# Altium integrated library pca20020.IntLib: 47 symbols
Pins are listed as number, name and electrical type; pins without a type are passive.

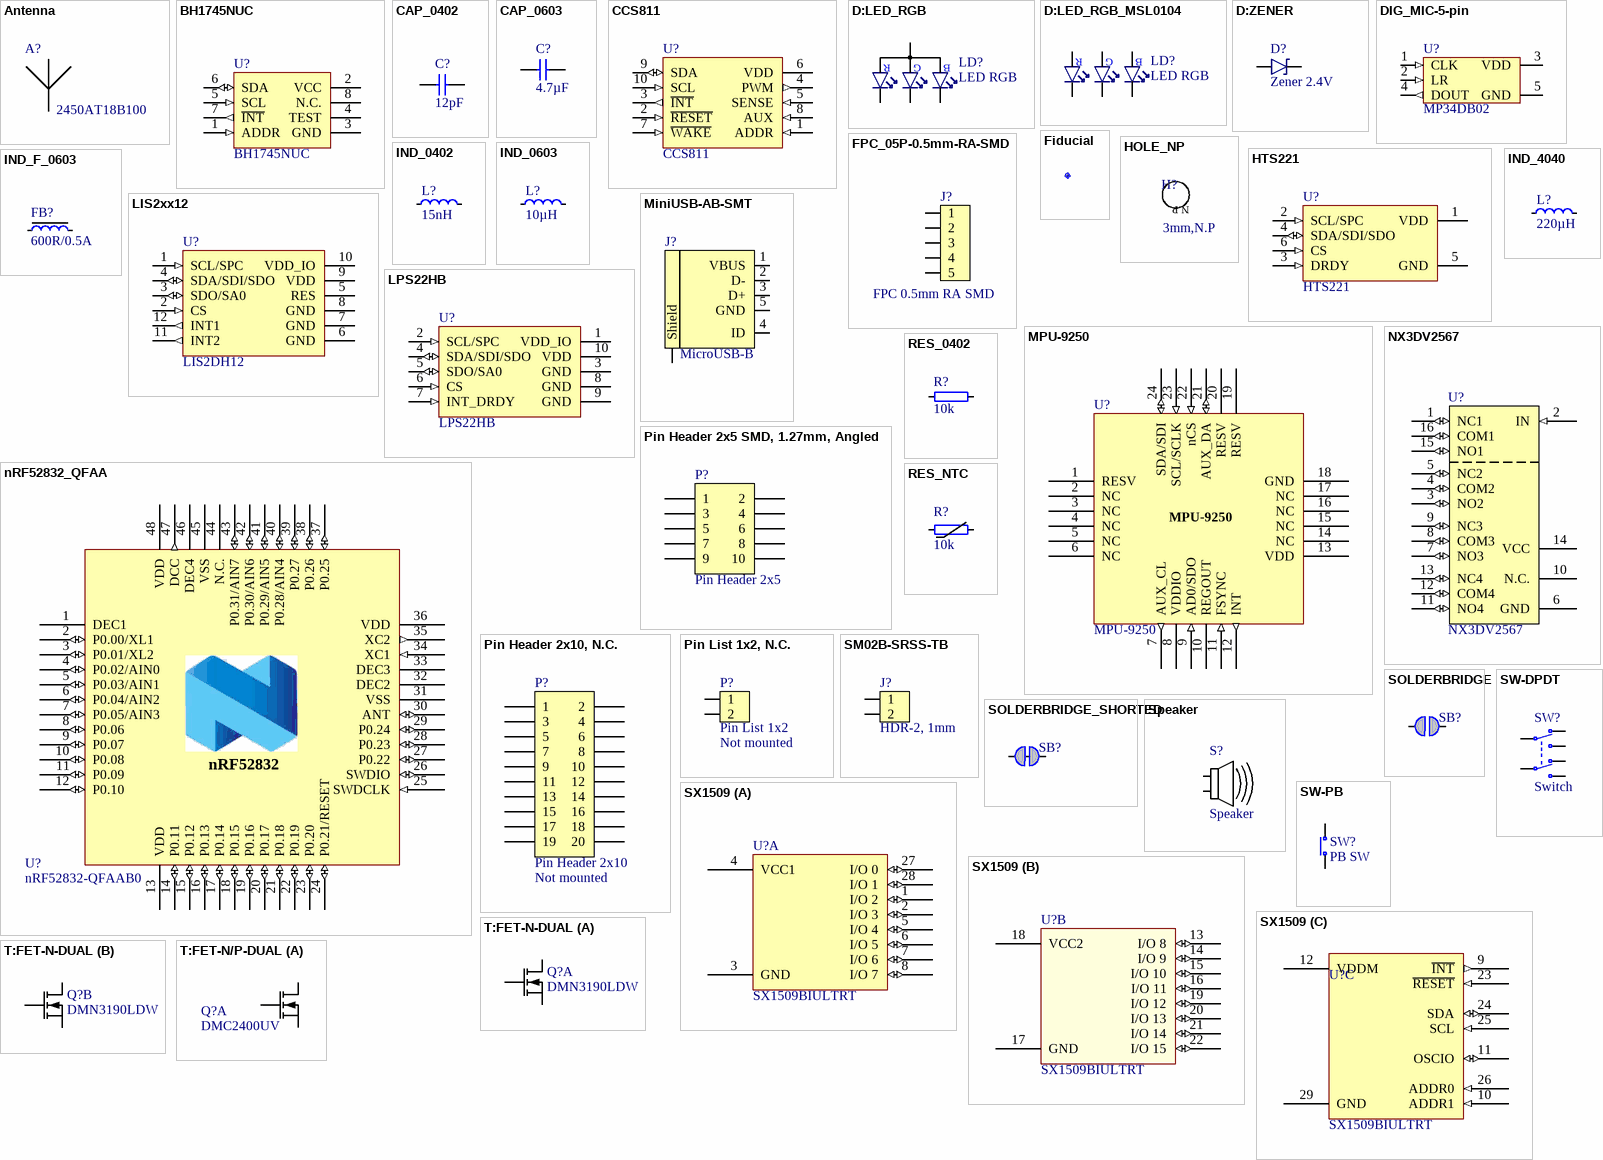
[diagram p0: symbols Antenna to T:FET-N/P-DUAL]

## Antenna
designator A?, comment 2450AT18B100
2.45 GHz chip antenna; Part Number: Johanson 2450AT18B100; Manufacturer: Johanson Technology; Part number IPS: 00000007781; Artikkelnr Noca: N.A.; Manufacturer Part Number: 2450AT18B100; Datasheet: http://www.johansontechnology.com/datasheets/antennas/2450AT18B100.pdf; Footprint Doc: 2450AT18B100; LatestRevisionDate: 2013-09-13; Pin Count: 2; Publisher: Nordic Semiconductor; Published: 2013-09-13; Value: 2450AT18B100; Note: *; Supplier: Digi-Key; Supplier part number: 712-1006-1-ND; 2nd source Supplier: *; 2nd source part number: *; Artikkelnr Simpro: N.A.
footprint 2450AT18B100
pins: 1

## BH1745NUC
designator U?
Digital 16bit Serial Output Type Color Sensor IC; Manufacturer: Rohm Semiconductor; Part number IPS: 00000007820; Artikkelnr Noca: N.A.; Part Number: BH1745NUC; Manufacturer Part Number: BH1745NUC; Datasheet: http://rohmfs.rohm.com/en/products/databook/datasheet/ic/sensor/light/bh1745nuc-e.pdf; Footprint Doc: WSON-8; LatestRevisionDate: 2015-10-07; Pin Count: 8; Publisher: Nordic Semiconductor; Published: 2015-10-07; Value: BH1745NUC; Note: *; Supplier: Digi-Key; Supplier part number: BH1745NUC-E2CT-ND; 2nd source Supplier: *; 2nd source part number: *; Artikkelnr Simpro: N.A.
footprint WSON50P210X210X60_HS-9N
pins: 1 ADDR (in), 2 VCC (power), 3 GND (power), 4 TEST, 5 SCL (in), 6 SDA (io), 7 ~{INT} (out), 8 N.C., 9 GND (power) hidden to GND

## CAP_0402
designator C?, comment 12pF
Capacitor, NP0, ±2%; Part Number: C0402-12p; Part number IPS: 00000002398; Note: 50V; Artikkelnr Noca: 20029159; Artikkelnr Simpro: N.A.; Manufacturer: *; Manufacturer Part Number: *; Datasheet: *; LatestRevisionDate: 2011-05-11; Pin Count: 2; Publisher: Nordic Semiconductor; Published: 2009-05-08; Value: 12pF; Supplier: *; Supplier part number: *; 2nd source Supplier: *; 2nd source part number: *; Footprint Doc: 0402
footprint CAPC1005X04L
pins: 1, 2

## CAP_0603
designator C?, comment 4.7µF
Capacitor, X5R, ±10%; Part Number: C0603-4µ7; Part number IPS: 00000007783; Note: 6.3V; Artikkelnr Noca: 20069060; Artikkelnr Simpro: N.A.; Manufacturer: *; Manufacturer Part Number: *; Datasheet: *; LatestRevisionDate: 2009-11-23; Pin Count: 2; Publisher: Nordic Semiconductor; Published: 2009-05-08; Value: 4.7µF; Supplier: *; Supplier part number: *; 2nd source Supplier: *; 2nd source part number: *; Footprint Doc: 0603
footprint CAPC1608X06L
pins: 1, 2

## CCS811
designator U?
Ultra-low power digital gas sensor for monitoring indoor air quality; Manufacturer: Cambridge CMOS Sensors; Part number IPS: 00000007821; Artikkelnr Noca: N.A.; Part Number: CCS811; Manufacturer Part Number: CCS811; Datasheet: *; Footprint Doc: LGA-10; LatestRevisionDate: 2015-11-04; Pin Count: 10; Publisher: Nordic Semiconductor; Published: 2015-11-04; Value: CCS811; Note: *; Supplier: *; Supplier part number: *; 2nd source Supplier: *; 2nd source part number: *; Artikkelnr Simpro: N.A.
footprint LGA60P270X400X110_HS-11N
pins: 1 ADDR (in), 2 ~{RESET} (in), 3 ~{INT} (out), 4 PWM (out), 5 SENSE (in), 6 VDD (power) "VDD 2.3V - 5.5V", 7 ~{WAKE} (in), 8 AUX (in), 9 SDA (io), 10 SCL (in), 11 GND (power) hidden to GND

## D:LED_RGB
designator LD?, comment LED RGB
RGB LED 1.60 mm x 1.60 mm SMD; Part Number: LTST-C19HE1WT; Manufacturer: Lite-On Inc; 2nd source part number: 859-LTST-C19HE1WT; Part number IPS: 00000007798; Artikkelnr Noca: N.A.; Manufacturer Part Number: LTST-C19HE1WT; Datasheet: http://optoelectronics.liteon.com/upload/download/DS22-2008-0044/S_110_LTST-C19HE1WT.pdf; LatestRevisionDate: 2016-09-23; Pin Count: 4; Publisher: Nordic Semiconductor; Published: 2016-09-23; Value: LED RGB; Note: *; Supplier: Digi-Key; Supplier part number: 160-2162-1-ND; 2nd source Supplier: Mouser; Footprint Doc: LED_RGB_0606; Artikkelnr Simpro: N.A.
footprint LED_RGB_0606
pins: 1 C_RED, 2 C_GREEN, 3 C_BLUE, 4 A
text: R; G; B

## D:LED_RGB_MSL0104
designator LD?, comment LED RGB
High brightness, side view RGB LED; Part Number: MSL0104RGBU1; Manufacturer: ROHM; 2nd source part number: 755-MSL0104RGBU1; Part number IPS: 00000007799; Artikkelnr Noca: N.A.; Manufacturer Part Number: MSL0104RGBU1; Datasheet: http://www.rohm.com/web/eu/datasheet/MSL0104RGBU; LatestRevisionDate: 2016-09-21; Pin Count: 7; Publisher: Nordic Semiconductor; Published: 2016-09-21; Value: LED RGB; Note: *; Supplier: Digi-Key; Supplier part number: MSL0104RGBU1CT-ND; 2nd source Supplier: Mouser; Footprint Doc: 6922; Artikkelnr Simpro: N.A.
footprint MSL0104
pins: 1 A_RED, 2 A_GREEN, 3 C_GREEN, 4 C_RED, 5 C_BLUE, 6 A_BLUE
text: R; G; B

## D:ZENER
designator D?, comment Zener 2.4V
Diode, Zener, 2.4V, 0.3W; Part Number: BZT52C2V4T; Manufacturer: Diodes Incorporated; Part number IPS: 00000007974; Artikkelnr Noca: N.A.; Manufacturer Part Number: BZT52C2V4T; Datasheet: http://www.diodes.com/_files/datasheets/ds30502.pdf; Footprint Doc: SOD-523; LatestRevisionDate: 2017-01-25; Publisher: Nordic Semiconductor; Published: 2017-01-25; Value: Zener 2.4V; Note: *; Supplier: Digi-Key; Supplier part number: BZT52C2V4T-7DICT-ND; 2nd source Supplier: *; 2nd source part number: *; Artikkelnr Simpro: N.A.; Pin Count: 2
footprint SOD-523
pins: 1 A, 3 C

## DIG_MIC-5-pin
designator U?, comment MP34DB02
MEMS audio sensor omnidirectional digital microphone; Manufacturer: STMicroelectronics; 2nd source part number: 511-MP34DB02TR; Part number IPS: 00000007822; Note: Alternative: ADMP421, SPK0833LM4H-B, MP34DB01; Artikkelnr Noca: N.A.; Part Number: MP34DB02; Manufacturer Part Number: MP34DB02; Datasheet: http://www.st.com/web/en/resource/technical/document/datasheet/DM00111225.pdf; LatestRevisionDate: 2015-11-11; Pin Count: 5; Publisher: Nordic Semiconductor; Published: 2015-11-11; Value: MP34DB02; Supplier: Digi-Key; Supplier part number: 497-15103-1-ND; 2nd source Supplier: Mouser; Footprint Doc: RHLGA-4; Artikkelnr Simpro: N.A.
footprint RHLGA-4 (3x4x1mm)
pins: 1 CLK (in), 2 LR (in), 3 VDD (power), 4 DOUT (out), 5 GND (power)

## Fiducial
designator Fid?, comment Fiducial mark  (value not drawn)
Part Number: Fid-Mark-Round-Square; Artikkelnr Noca: N.A.; Manufacturer: *; Manufacturer Part Number: *; Datasheet: *; LatestRevisionDate: 2017-01-30; Pin Count: 1; Publisher: Nordic Semiconductor; Published: 2009-12-12; Value: *; Note: *; Supplier: *; Supplier part number: *; 2nd source Supplier: *; 2nd source part number: *; Footprint Doc: Fiducial; Artikkelnr Simpro: N.A.
footprint Fiducial_Round-Square

## FPC_05P-0.5mm-RA-SMD
designator J?, comment FPC 0.5mm RA SMD
0.5mm FPC, 5P,Right Angle SMT,Double Contact,H=1.2mm,White, Tin plated; Part Number: FPC_05P-0.5mm-RA-SMD; Manufacturer: W-CON; Manufacturer Part Number: 5141-05RZDNWR01; 2nd source part number: WM9836CT-ND; Part number IPS: 00000007792; Artikkelnr Noca: 55010020; Artikkelnr Simpro: N.A.; Datasheet: \\hizz\pro\app9717\Datasheet\connectores\W-CON\5141-XXRZDNXX0X.pdf; Footprint Doc: FPC_05P-0.5mm-RA-SMD; LatestRevisionDate: 2016-04-21; Pin Count: 7; Publisher: Nordic Semiconductor; Published: 2015-06-22; Value: FPC 0.5mm RA SMD; Note: *; Supplier: Cabcon; Supplier part number: 5141-05RZDNWR01; 2nd source Supplier: Digi-Key
footprint FPC_05P-0.5mm-RA-SMD
pins: 1, 2, 3, 4, 5

## HOLE_NP
designator H?, comment 3mm,N.P  (no BOM)
Regular Non-Plated, 3mm hole; Part Number: Hole_3MM_NP; Manufacturer: Nordic Semiconductor; Artikkelnr Noca: N.A.; Manufacturer Part Number: *; Datasheet: *; Footprint Doc: Hole_3MM_NP; LatestRevisionDate: 2009-12-12; Pin Count: 1; Publisher: Nordic Semiconductor; Published: 2009-12-12; Value: 3mm,N.P; Note: Regular Non-Plated, 3mm hole; Supplier: *; Supplier part number: *; 2nd source Supplier: *; 2nd source part number: *; Artikkelnr Simpro: N.A.
footprint HOLE_NP_3MM
text: N.P.

## HTS221
designator U?
Capacitive digital sensor for relative humidity and temperature; Manufacturer: STMicroelectronics; 2nd source part number: 511-HTS221TR; Part number IPS: 00000007819; Artikkelnr Noca: N.A.; Part Number: HTS221; Manufacturer Part Number: HTS221; Datasheet: http://www.st.com/content/ccc/resource/technical/document/datasheet/4d/9a/9c/ad/25/07/42/34/DM00116291.pdf/files/DM00116291.pdf/jcr:content/translations/en.DM00116291.pdf; Footprint Doc: HLGA-6L; LatestRevisionDate: 2016-09-15; Pin Count: 6; Publisher: Nordic Semiconductor; Published: 2016-09-15; Value: HTS221; Note: *; Supplier: Digi-Key; Supplier part number: 497-15382-1-ND; 2nd source Supplier: Mouser; Artikkelnr Simpro: N.A.
footprint HLGA100P200X200X100-6N
pins: 1 VDD (power), 2 SCL/SPC (in), 3 DRDY (in), 4 SDA/SDI/SDO (io), 5 GND (power), 6 CS (in)

## IND_0402
designator L?, comment 15nH
Inductor, 320mA, ±5%; Part Number: L0402-15n; Manufacturer: Taiyo Yuden; Manufacturer Part Number: HK100515NJ-T; 2nd source part number: 658-1328; Part number IPS: 00000003215; Note: High frequency chip inductor ±10%; Artikkelnr Noca: 33029323; Artikkelnr Simpro: N.A.; LatestRevisionDate: 2012-09-19; Pin Count: 2; Publisher: Nordic Semiconductor; Published: 2010-07-12; Value: 15nH; Supplier: Digi-Key; Datasheet: http://www.yuden.co.jp/productdata/catalog/en/mlci04_e.pdf; Supplier part number: 587-1521-1-ND; 2nd source Supplier: Farnell; Footprint Doc: 0402; ComponentLink1Description: Datasheet; ComponentLink2Description: Supplier link
footprint INDC1005X04L
pins: 1, 2

## IND_0603
designator L?, comment 10µH
Inductor, 80mA, ±10%; Part Number: L0603-10µ; Manufacturer: Taiyo Yuden; Manufacturer Part Number: LBMF1608T100K; 2nd source part number: 178-6105; Part number IPS: 00000007794; Note: LBMF1608T100K 10µH 80mA 0603; Artikkelnr Noca: 33029314; Artikkelnr Simpro: N.A.; Datasheet: http://www.yuden.co.jp/ut/product/pdf/elb2_e.pdf; LatestRevisionDate: 2012-09-19; Pin Count: 2; Publisher: Nordic Semiconductor; Published: 2010-02-24; Value: 10µH; Supplier: Digi-Key; Supplier part number: 587-1714-1-ND; 2nd source Supplier: Farnell; Footprint Doc: 0603; ComponentLink1Description: Datasheet; ComponentLink2Description: Supplier link
footprint INDC1608X06L
pins: 1, 2

## IND_4040
designator L?, comment 220µH
Inductor, ±20%, 200mA, 2.76 Ohm; Part Number: L4040-220µ; Manufacturer: Bourns; Manufacturer Part Number: SRN4026-221M; Part number IPS: 00000007797; Note: -40°C ~ 125°C; Artikkelnr Noca: N:A; Artikkelnr Simpro: N.A.; Datasheet: http://www.bourns.com/docs/Product-Datasheets/SRN4026.pdf; Footprint Doc: 4040; LatestRevisionDate: 2016-01-18; Pin Count: 2; Publisher: Nordic Semiconductor; Published: 2016-01-18; Value: 220µH; Supplier: Digi-Key; Supplier part number: SRN4026-221MCT-ND; 2nd source Supplier: *; 2nd source part number: *; ComponentLink1Description: Datasheet; ComponentLink2Description: Supplier link
footprint INDP4040X25N
pins: 1, 2

## IND_F_0603
designator FB?, comment 600R/0.5A
Ferrite Bead, 600 Ohm @ 100MHz, 500mA, 380 mOhm Max; Part Number: FB0603-600R@100MHz-500mA; Manufacturer: Murata; Manufacturer Part Number: BLM18AG601SN1; 2nd source part number: 490-1014-1-ND; Part number IPS: 00000007789; Note: Chip EMIFIL Inductor Type Chip Ferrite Bead; Artikkelnr Noca: 37019100; Artikkelnr Simpro: N.A.; Datasheet: http://www.farnell.com/datasheets/356366.pdf; Footprint Doc: 0603; LatestRevisionDate: 2014-01-10; Pin Count: 2; Publisher: Nordic Semiconductor; Published: 2010-09-02; Value: 600R/0.5A; Supplier: Farnell; Supplier part number: 151-5679; 2nd source Supplier: Digi-Key; ComponentLink1Description: Datasheet; ComponentLink2Description: Supplier link
footprint INDC1608X06L
pins: 1, 2

## LIS2xx12
designator U?, comment LIS2DH12
3-axis - ±2g/±4g/±8g/±16g digital output femto accelerometer; Manufacturer: STMicroelectronics; 2nd source part number: 243-3081; Part number IPS: 00000007817; Note: MEMS digital output motion sensor ultra low-power high performance 3-axes "femto" accelerometer; Artikkelnr Noca: N.A.; Part Number: LIS2DH12; Manufacturer Part Number: LIS2DH12; Datasheet: http://www.st.com/st-web-ui/static/active/en/resource/technical/document/datasheet/DM00091513.pdf; Footprint Doc: LGA-12; LatestRevisionDate: 2015-09-29; Pin Count: 12; Publisher: Nordic Semiconductor; Published: 2015-09-29; Value: LIS2DH12; Supplier: Digi-Key; Supplier part number: 497-14851-1-ND; 2nd source Supplier: Farnell; Artikkelnr Simpro: N.A.
footprint LGA50P200X200X100-12N
pins: 1 SCL/SPC (in), 2 CS (in), 3 SDO/SA0 (io), 4 SDA/SDI/SDO (io), 5 RES, 6 GND (power), 7 GND (power), 8 GND (power), 9 VDD (power), 10 VDD_IO (power), 11 INT2 (out), 12 INT1 (out)

## LPS22HB
designator U?
MEMS nano pressure sensor: 260-1260 hPa absolute digital output barometer; Manufacturer: STMicroelectronics; 2nd source part number: 511-LPS22HBTR; Part number IPS: 00000007818; Artikkelnr Noca: N.A.; Part Number: LPS22HB; Manufacturer Part Number: LPS22HB; Datasheet: http://www.st.com/content/ccc/resource/technical/document/datasheet/bf/c1/4f/23/61/17/44/8a/DM00140895.pdf/files/DM00140895.pdf/jcr:content/translations/en.DM00140895.pdf; Footprint Doc: HLGA-10L; LatestRevisionDate: 2016-06-20; Pin Count: 10; Publisher: Nordic Semiconductor; Published: 2016-06-20; Value: LPS22HB; Note: *; Supplier: Digi-Key; Supplier part number: 497-16265-1-ND; 2nd source Supplier: Mouser; Artikkelnr Simpro: N.A.
footprint LGA50P200X200X80-10N
pins: 1 VDD_IO (power), 2 SCL/SPC (in), 3 GND (power), 4 SDA/SDI/SDO (io), 5 SDO/SA0 (io), 6 CS (in), 7 INT_DRDY (in), 8 GND (power), 9 GND (power), 10 VDD (power)

## MiniUSB-AB-SMT
designator J?, comment MicroUSB-B
MicroUSB-B-SMT; Part Number: USB-Micro-B-RA-SMD-PiP; Manufacturer: Allen Creations Corp.; Manufacturer Part Number: AJU55-BS2111-L; 2nd source part number: 609-4616-1-ND; Part number IPS: 00000007790; Artikkelnr Noca: 55029020; Artikkelnr Simpro: N.A.; Datasheet: \\hizz\pro\app9717\Datasheet\connectores\Allen Creations Corp\AJU-211.pdf; Footprint Doc: USB-Micro-B-RA-SMD-PiP; LatestRevisionDate: 2016-04-21; Pin Count: 5; Publisher: Nordic Semiconductor; Published: 2014-10-07; Value: MicroUSB-B; Note: *; Supplier: Cabcon; Supplier part number: AJU55-BS2111-L; 2nd source Supplier: Digi-Key
footprint USB-Micro-B-RA-SMD-PiP
pins: 1 VBUS (power), 2 D-, 3 D+, 4 ID, 5 GND (power), 6 Shield (power)

## MPU-9250
designator U?
9-axis MotionTracking™ Device; Manufacturer: InvenSense; Part number IPS: 00000007815; Note: 3-Axis Gyro, 3-Axis Accel and 3-Axis Compass; Artikkelnr Noca: N.A.; Part Number: MPU-9250; Manufacturer Part Number: MPU-9250; Datasheet: http://43zrtwysvxb2gf29r5o0athu.wpengine.netdna-cdn.com/wp-content/uploads/2015/02/MPU-9250-Datasheet.pdf; Footprint Doc: QFN-24; LatestRevisionDate: 2015-06-24; Pin Count: 24; Publisher: Nordic Semiconductor; Published: 2015-06-24; Value: MPU-9250; Supplier: Digi-Key; Supplier part number: 1428-1019-1-ND; 2nd source Supplier: *; 2nd source part number: *; Artikkelnr Simpro: N.A.
footprint QFN40P300X300X105_HS-25N
pins: 1 RESV, 2 NC, 3 NC, 4 NC, 5 NC, 6 NC, 7 AUX_CL (out), 8 VDDIO (power), 9 AD0/SDO (in), 10 REGOUT, 11 FSYNC (in), 12 INT (out), 13 VDD (power), 14 NC, 15 NC, 16 NC, 17 NC, 18 GND (power), 19 RESV, 20 RESV, 21 AUX_DA (io), 22 nCS (in), 23 SCL/SCLK (in), 24 SDA/SDI (io)

## nRF52832_QFAA
designator U?, comment nRF52832-QFAAB0
Multi-protocol Bluetooth Low Energy, ANT and 2.4GHz proprietary system-on-chip; Manufacturer: Nordic Semiconductor; Part number IPS: 80000000710; Artikkelnr Noca: 15079334; Artikkelnr Simpro: N.A.; Part Number: nRF52832-QFAAB0; Manufacturer Part Number: nRF52832-QFAAB0; Datasheet: *; LatestRevisionDate: 2016-08-25; Pin Count: 48; Publisher: Nordic Semiconductor; Published: 2016-08-25; Value: nRF52832-QFAAB0; Note: *; Supplier: Nordic Semiconductor; Supplier part number: nRF52832-QFAAB0; 2nd source Supplier: *; 2nd source part number: *; Footprint Doc: QFN-48
footprint QFN40P600X600X90-48N
pins: 1 DEC1 (power), 2 P0.00/XL1 (io), 3 P0.01/XL2 (io), 4 P0.02/AIN0 (io), 5 P0.03/AIN1 (io), 6 P0.04/AIN2 (io), 7 P0.05/AIN3 (io), 8 P0.06 (io), 9 P0.07 (io), 10 P0.08 (io), 11 P0.09 (io), 12 P0.10 (io), 13 VDD (power), 14 P0.11 (io), 15 P0.12 (io), 16 P0.13 (io), 17 P0.14 (io), 18 P0.15 (io), 19 P0.16 (io), 20 P0.17 (io), 21 P0.18 (io), 22 P0.19 (io), 23 P0.20 (io), 24 P0.21/RESET (io), 25 SWDCLK (in), 26 SWDIO (io), 27 P0.22 (io), 28 P0.23 (io), 29 P0.24 (io), 30 ANT (io), 31 VSS (power), 32 DEC2 (power), 33 DEC3 (power), 34 XC1 (in), 35 XC2 (out), 36 VDD (power), 37 P0.25 (io), 38 P0.26 (io), 39 P0.27 (io), 40 P0.28/AIN4 (io), 41 P0.29/AIN5 (io), 42 P0.30/AIN6 (io), 43 P0.31/AIN7 (io), 44 N.C. (power), 45 VSS (power), 46 DEC4 (power), 47 DCC (out), 48 VDD (power), 49 GND (power) hidden to GND
text: nRF52832

## NX3DV2567
designator U?
Low-ohmic four-pole double-throw analog switch; Part Number: NX3DV2567GU; Manufacturer: NXP Semiconductors; 2nd source part number: 771-NX3DV2567GU115; Part number IPS: 00000007816; Artikkelnr Noca: 15079317; Artikkelnr Simpro: N.A.; Manufacturer Part Number: NX3DV2567GU; Datasheet: http://www.nxp.com/documents/data_sheet/NX3DV2567.pdf; Footprint Doc: XQFN-16; LatestRevisionDate: 2015-02-17; Pin Count: 16; Publisher: Nordic Semiconductor; Published: 2015-02-17; Value: NX3DV2567; Note: *; Supplier: Digi-Key; Supplier part number: 568-5206-1-ND; 2nd source Supplier: Mouser
footprint XQFN40P180X260X50-16N
pins: 1 NC1 (io), 2 IN (in), 3 NO2 (io), 4 COM2 (io), 5 NC2 (io), 6 GND (power), 7 NO3 (io), 8 COM3 (io), 9 NC3 (io), 10 N.C., 11 NO4 (io), 12 COM4 (io), 13 NC4 (io), 14 VCC (power), 15 NO1 (io), 16 COM1 (io)

## Pin Header 2x5 SMD, 1.27mm, Angled
designator P?, comment Pin Header 2x5
Pin Header 2x5, 1.27mm (50mil); Part Number: Pin Header 2x5 SMD, 1.27mm, Angled; Manufacturer: Samtec; Manufacturer Part Number: FTSH-105-01-L-DH-A-C-TR; Part number IPS: 00000007800; Artikkelnr Noca: N.A.; Datasheet: http://www.samtec.com/documents/webfiles/pdf/FTSH_SMT.PDF; LatestRevisionDate: 2014-01-22; Pin Count: 10; Publisher: Nordic Semiconductor; Published: 2014-01-22; Value: Pin Header 2x5; Note: *; Supplier: Samtec; Supplier part number: FTSH-105-01-L-DH-A-C-TR; 2nd source Supplier: *; 2nd source part number: *; Footprint Doc: HDR_2x5-SMD-1.27mm-ANG; Artikkelnr Simpro: N.A.
footprint HDR_2x5-SMD-1.27mm-ANG
pins: 1, 2, 3, 4, 5, 6, 7, 8, 9, 10

## Pin Header 2x10, N.C.
designator P?, comment Pin Header 2x10  Assembly: Not mounted
Pin Header 2x10, 2.54mm (100mil); Part Number: Pin Header 2x10, N.C.; Artikkelnr Noca: N.A.; Manufacturer: *; Manufacturer Part Number: *; Datasheet: *; Footprint Doc: HDR_2x10; LatestRevisionDate: 2017-02-02; Pin Count: 20; Publisher: Nordic Semiconductor; Published: 2017-01-30; Value: Pin Header 2x10; Note: *; Supplier: *; Supplier part number: *; 2nd source Supplier: *; 2nd source part number: *; Artikkelnr Simpro: N.A.
footprint HDR_2x10-NC
pins: 1, 2, 3, 4, 5, 6, 7, 8, 9, 10, 11, 12, 13, 14, 15, 16, 17, 18, 19, 20

## Pin List 1x2, N.C.
designator P?, comment Pin List 1x2  Assembly: Not mounted
Pin List 1x2, 2.54mm (100mil); Part Number: Pin List 1x2, N.C.; Artikkelnr Noca: N.A.; Manufacturer: *; Manufacturer Part Number: *; Datasheet: *; Footprint Doc: LIST_1x2; LatestRevisionDate: 2017-02-02; Pin Count: 2; Publisher: Nordic Semiconductor; Published: 2017-01-30; Value: Pin List 1x2; Note: *; Supplier: *; Supplier part number: *; 2nd source Supplier: *; 2nd source part number: *; Artikkelnr Simpro: N.A.
footprint LIST_1x2-NC
pins: 1, 2

## RES_0402
designator R?, comment 10k
Resistor, ±1%, 0.063W; Part Number: R0402-10k; Part number IPS: 00000002093; Note: Chip Res 1%; Artikkelnr Noca: 27049097; Artikkelnr Simpro: N.A.; Value Ohm: 10000; Manufacturer: *; Manufacturer Part Number: *; Datasheet: *; Footprint Doc: 0402; LatestRevisionDate: 2009-11-23; Pin Count: 2; Publisher: Nordic Semiconductor; Published: 2009-05-08; Value: 10k; Supplier: Farnell; Supplier part number: 173-8864; 2nd source Supplier: *; 2nd source part number: *
footprint RESC1005X04L
pins: 1, 2

## RES_NTC
designator R?, comment 10k
THERMISTOR 10K OHM NTC 0402 SMD; Part Number: NCP15XH103F03RC; Manufacturer: Murata; 2nd source part number: 2456121; Part number IPS: 00000007808; Note: Chip Res 1%; Artikkelnr Noca: N.A.; Value Ohm: 10000; Manufacturer Part Number: NCP15XH103F03RC; Datasheet: *; LatestRevisionDate: 2015-03-25; Pin Count: 2; Publisher: Nordic Semiconductor; Published: 2015-03-25; Value: 10k; Supplier: Digi-Key; Supplier part number: 490-4801-1-ND; 2nd source Supplier: Farnell; Footprint Doc: 0402; Artikkelnr Simpro: N.A.
footprint RESC1005X04L
pins: 1, 2

## SM02B-SRSS-TB
designator J?, comment HDR-2, 1mm
1.0mm pitch connector side entry SMD; Part Number: SM02B-SRSS-TB; Manufacturer: JST; Manufacturer Part Number: SM02B-SRSS-TB(LF)(SN); Part number IPS: 00000007791; Note: JST, Header; Artikkelnr Noca: 55010030; Artikkelnr Simpro: N.A.; Datasheet: http://www.jst-mfg.com/product/pdf/eng/eSH.pdf; Footprint Doc: SM02B-SRSS-TB; LatestRevisionDate: 2016-06-20; Pin Count: 2; Publisher: Nordic Semiconductor; Published: 2016-06-20; Value: HDR-2, 1mm; Supplier: Digi-Key; Supplier part number: 455-1802-1-ND; 2nd source Supplier: *; 2nd source part number: *
footprint SM02B-SRSS-TB
pins: 1, 2

## SOLDERBRIDGE
designator SB?, comment Solderbridge  (value not drawn)  (no BOM)
Artikkelnr Noca: N.A.; Part Number: Solderbridge; Manufacturer: *; Manufacturer Part Number: *; Datasheet: *; Footprint Doc: Solderbridge; LatestRevisionDate: 2009-12-14; Pin Count: 2; Publisher: Nordic Semiconductor; Published: 2009-12-14; Value: Solderbridge; Note: *; Supplier: *; Supplier part number: *; 2nd source Supplier: *; 2nd source part number: *; Artikkelnr Simpro: N.A.
footprint Solderbridge
pins: 1 0, 2 1

## SOLDERBRIDGE_SHORTED
designator SB?, comment Solderbridge  (value not drawn)  (net tie, no BOM)
Shorted Solderbridge; Part Number: Solderbridge Shorted; Artikkelnr Noca: N.A.; Manufacturer: *; Manufacturer Part Number: *; Datasheet: *; Footprint Doc: Solderbridge_Shorted; LatestRevisionDate: 2012-08-07; Pin Count: 2; Publisher: Nordic Semiconductor; Published: 2012-08-07; Value: Solderbridge; Note: *; Supplier: *; Supplier part number: *; 2nd source Supplier: *; 2nd source part number: *; Artikkelnr Simpro: N.A.
footprint Solderbridge_Shorted
pins: 1 0, 2 1

## Speaker
designator S?  (no BOM)
Speaker, SMD, 15.0mm x 11.0mm x 3.0mm, 0Hz-20kHz, 89dB, 8 ohm, 0.7W; Part Number: BMS1511F-11C-08H03P LF; Manufacturer: BeStar; Artikkelnr Noca: N.A.; Manufacturer Part Number: BMS1511F-11C-08H03P LF; Datasheet: \\hizz\pro\app9717\Datasheet\speakers\bestar\BMS1511F-11C-08H03P LF.pdf; Footprint Doc: Speaker 15x11x3mm; LatestRevisionDate: 2016-09-15; Pin Count: 2; Publisher: Nordic Semiconductor; Published: 2016-09-15; Value: Speaker; Note: *; Supplier: *; Supplier part number: *; 2nd source Supplier: *; 2nd source part number: *; Artikkelnr Simpro: N.A.
footprint Speaker 15x11x3mm
pins: 1, 2

## SW-DPDT
designator SW?, comment Switch
SMD slide Switch (ON-ON); Part Number: Switch-Slide-RA-J-Lead-DPDT-8.5x3.5mm_C&K; Manufacturer: C&K Components; Manufacturer Part Number: JS202011JAQN; 2nd source part number: 611-JS202011JAQN; Part number IPS: 00000007811; Artikkelnr Noca: N.A.; Datasheet: http://www.ck-components.com/media/1422/js.pdf; Footprint Doc: Switch-Slide-RA-J-Lead-DPDT-8.5x3.5mm; LatestRevisionDate: 2017-02-01; Pin Count: 6; Publisher: Nordic Semiconductor; Published: 2016-09-15; Value: Switch; Note: *; Supplier: Digi-Key; Supplier part number: CKN10722CT-ND; 2nd source Supplier: Mouser; Artikkelnr Simpro: N.A.
footprint Switch-Slide-RA-J-Lead-DPDT-8.5x3.5mm
pins: 1 N.O-1, 2 COM-1, 3 N.C-1, 4 N.O-2, 5 COM-2, 6 N.C-2

## SW-PB
designator SW?, comment PB SW
Tactile Switch, SPNO, SMD, 160gf, 6.2x6.3x2.5mm; Part Number: Switch-PB-6.2x6.3mm-SMD; Manufacturer: Dailywell; Manufacturer Part Number: TS604VM1-025BR-R; 2nd source part number: 688-SKHUALE010; Part number IPS: 00000007812; Artikkelnr Noca: 50019106; Artikkelnr Simpro: N.A.; Datasheet: \\hizz\pro\app9717\Datasheet\switches\Dailywell\TS604VM1-025BR-R.pdf; Footprint Doc: Switch-PB-6.2x6.3mm-SMD; LatestRevisionDate: 2016-04-21; Pin Count: 4; Publisher: Nordic Semiconductor; Published: 2010-02-01; Value: PB SW; Note: *; Supplier: Cabcon; Supplier part number: TS604VM1-025BR-R; 2nd source Supplier: Mouser
footprint Switch-PB-6.2x6.3mm-SMD
pins: 1 N.O, 2 COM

## SX1509
designator U?, comment SX1509BIULTRT
IC GPIO EXPANDER I2C 16CH 28QFN; Manufacturer: Semtech Corporation; Part number IPS: 00000007814; Artikkelnr Noca: N.A.; Part Number: SX1509BIULTRT; Manufacturer Part Number: SX1509BIULTRT; Datasheet: http://www.semtech.com/apps/product.php?pn=sx1509&x=0&y=0; Footprint Doc: QFN-28; LatestRevisionDate: 2015-03-10; Pin Count: 29; Publisher: Nordic Semiconductor; Published: 2015-03-10; Value: SX1509BIULTRT; Note: *; Supplier: Digi-Key; Supplier part number: SX1509BIULCT-ND; 2nd source Supplier: *; 2nd source part number: *; Artikkelnr Simpro: N.A.
footprint QFN40P400X400X60_HS-29N
part A pins: 1 I/O 2 (io), 2 I/O 3 (io), 3 GND (power), 4 VCC1 (power), 5 I/O 4 (io), 6 I/O 5 (io), 7 I/O 6 (io), 8 I/O 7 (io), 27 I/O 0 (io), 28 I/O 1 (io)
part B pins: 13 I/O 8 (io), 14 I/O 9 (io), 15 I/O 10 (io), 16 I/O 11 (io), 17 GND (power), 18 VCC2 (power), 19 I/O 12 (io), 20 I/O 13 (io), 21 I/O 14 (io), 22 I/O 15 (io)
part C pins: 9 ~{INT} (out), 10 ADDR1 (in), 11 OSCIO (io), 12 VDDM (power), 23 ~{RESET} (in), 24 SDA (io), 25 SCL (in), 26 ADDR0 (in), 29 GND (power)

## T:FET-N-DUAL
designator Q?, comment DMN3190LDW
Dual N Ch MOFET, 1A, 190mOhm, 320mW; Manufacturer: Diodes Incorporated; Part number IPS: 00000007804; Note: Dual N Channel Digital FET; Artikkelnr Noca: N.A.; Part Number: DMN3190LDW; Manufacturer Part Number: DMN3190LDW; Datasheet: http://www.diodes.com/_files/datasheets/DMN3190LDW.pdf; Footprint Doc: SOT-363; LatestRevisionDate: 2016-09-22; Pin Count: 6; Publisher: Nordic Semiconductor; Published: 2016-09-22; Value: DMN3190LDW; Supplier: Digi-Key; Supplier part number: DMN3190LDW-13DICT-ND; 2nd source Supplier: *; 2nd source part number: *; Artikkelnr Simpro: N.A.
footprint SOT-363
part A pins: 1 S1, 2 G1, 6 D1
part B pins: 3 D2, 4 S2, 5 G2

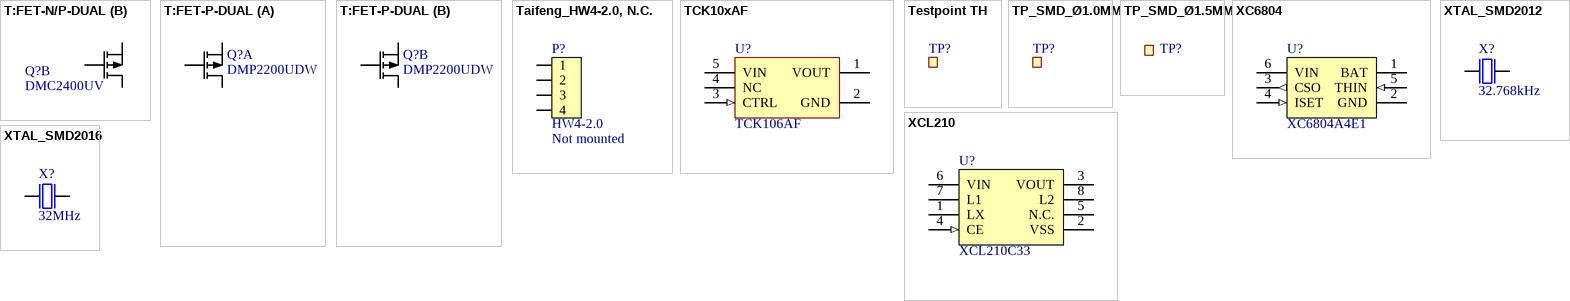
[diagram p1: symbols T:FET-N/P-DUAL to XTAL_SMD2016]

## T:FET-N/P-DUAL
designator Q?, comment DMC2400UV
Dual N & P Ch MOFET, 1.03A/0.7A, 480mOhm, 450mW; Manufacturer: Diodes Incorporated; Part number IPS: 00000007803; Note: Dual N & P Channel Digital FET; Artikkelnr Noca: N.A.; Part Number: DMC2400UV; Manufacturer Part Number: DMC2400UV; Datasheet: http://www.diodes.com/_files/datasheets/DMC2400UV.pdf; Footprint Doc: SOT-563; LatestRevisionDate: 2016-01-18; Pin Count: 6; Publisher: Nordic Semiconductor; Published: 2016-01-18; Value: DMC2400UV; Supplier: Digi-Key; Supplier part number: DMC2400UV-7DICT-ND; 2nd source Supplier: *; 2nd source part number: *; Artikkelnr Simpro: N.A.
footprint SOTFL50P162X60-6N
part A pins: 1 S1, 2 G1, 6 D1
part B pins: 3 D2, 4 S2, 5 G2

## T:FET-P-DUAL
designator Q?, comment DMP2200UDW
Dual P Ch MOFET, 900mA, 260mOhm, 450mW; Manufacturer: Diodes Incorporated; Part number IPS: 00000007802; Note: Dual P Channel Digital FET; Artikkelnr Noca: N.A.; Part Number: DMP2200UDW; Manufacturer Part Number: DMP2200UDW; Datasheet: http://www.diodes.com/_files/datasheets/DMP2200UDW.pdf; Footprint Doc: SOT-363; LatestRevisionDate: 2016-11-08; Pin Count: 6; Publisher: Nordic Semiconductor; Published: 2016-11-08; Value: DMP2200UDW; Supplier: Digi-Key; Supplier part number: DMP2200UDW-7DICT-ND; 2nd source Supplier: *; 2nd source part number: *; Artikkelnr Simpro: N.A.
footprint SOT-363
part A pins: 1 S1, 2 G1, 6 D1
part B pins: 3 D2, 4 S2, 5 G2

## Taifeng_HW4-2.0, N.C.
designator P?, comment HW4-2.0  Assembly: Not mounted
4 pin, Grove DIP connector; Part Number: Taifeng_HW4-2.0, N.C.; Manufacturer: Taifeng; Artikkelnr Noca: N.A.; Manufacturer Part Number: HW4-2.0; Datasheet: *; Footprint Doc: HW4-2.0; LatestRevisionDate: 2017-01-30; Pin Count: 4; Publisher: Nordic Semiconductor; Published: 2017-01-30; Value: HW4-2.0; Note: *; Supplier: Seeedstudio; Supplier part number: 110990030; 2nd source Supplier: *; 2nd source part number: *; Artikkelnr Simpro: N.A.
footprint TAIFENG_HW4-2.0-NC
pins: 1, 2, 3, 4

## TCK10xAF
designator U?, comment TCK106AF
1.0 A Load Switch IC with Slew Rate Control Driver in Small Package; Part Number: TCK106AF,LF; Manufacturer: Toshiba; Part number IPS: 00000007823; Artikkelnr Noca: 15070086; Artikkelnr Simpro: N.A.; Manufacturer Part Number: TCK106AF,LF; Datasheet: https://toshiba.semicon-storage.com/info/docget.jsp?did=53240&prodName=TCK108AF; Footprint Doc: SOT-25; LatestRevisionDate: 2016-09-29; Pin Count: 5; Publisher: Nordic Semiconductor; Published: 2016-09-29; Value: TCK106AF; Note: *; Supplier: Digi-Key; Supplier part number: TCK106AFLFCT-ND; 2nd source Supplier: *; 2nd source part number: *
footprint SOT95P280X140-5N
pins: 1 VOUT (power), 2 GND (power), 3 CTRL (in), 4 NC, 5 VIN (power)

## Testpoint TH
designator TP?, comment TP  (value not drawn)  (no BOM)
Testpoint, through hole; Part Number: Testpoint TH; Artikkelnr Noca: N.A.; Manufacturer: *; Manufacturer Part Number: *; Datasheet: *; Footprint Doc: TESTPAD-TH; LatestRevisionDate: 2009-12-12; Pin Count: 1; Publisher: Nordic Semiconductor; Published: 2009-12-12; Value: TP; Note: *; Supplier: *; Supplier part number: *; 2nd source Supplier: *; 2nd source part number: *; Artikkelnr Simpro: N.A.
footprint TESTPAD-TH
pins: 1

## TP_SMD_Ø1.0MM
designator TP?, comment Ø1.5mm,SMD  (value not drawn)  (no BOM)
1.0mm circular SMD testpad; Part Number: TP_SMD_Ø1.5MM; Manufacturer: Nordic Semiconductor; Artikkelnr Noca: N.A.; Manufacturer Part Number: *; Datasheet: *; Footprint Doc: TP_SMD_Ø1.5mm; LatestRevisionDate: 2016-06-02; Pin Count: 1; Publisher: Nordic Semiconductor; Published: 2016-06-02; Value: Ø1.5mm,SMD; Note: *; Supplier: *; Supplier part number: *; 2nd source Supplier: *; 2nd source part number: *; Artikkelnr Simpro: N.A.
footprint TP_SMD_Ø1.0mm
pins: 1

## TP_SMD_Ø1.5MM
designator TP?, comment Ø1.5mm,SMD  (value not drawn)  (no BOM)
1.0mm circular SMD testpad; Part Number: TP_SMD_Ø1.5MM; Manufacturer: Nordic Semiconductor; Artikkelnr Noca: N.A.; Manufacturer Part Number: *; Datasheet: *; Footprint Doc: TP_SMD_Ø1.5mm; LatestRevisionDate: 2016-06-02; Pin Count: 1; Publisher: Nordic Semiconductor; Published: 2016-06-02; Value: Ø1.5mm,SMD; Note: *; Supplier: *; Supplier part number: *; 2nd source Supplier: *; 2nd source part number: *; Artikkelnr Simpro: N.A.
footprint TP_SMD_Ø1.5mm
pins: 1

## XC6804
designator U?, comment XC6804A4E1
One Cell Li-ion/Li-polymer Linear Charger IC with Battery Temperature Detection; Part Number: XC6804A4E14R-G; Manufacturer: Torex Semiconductor; 2nd source part number: 865-XC6804A4E14R-G; Part number IPS: 00000007825; Artikkelnr Noca: N.A.; Manufacturer Part Number: XC6804A4E14R-G; Datasheet: https://www.torexsemi.com/file/xc6804/XC6804.pdf; Footprint Doc: USP-6EL; LatestRevisionDate: 2016-09-29; Pin Count: 6; Publisher: Nordic Semiconductor; Published: 2016-09-29; Value: XC6804A4E1; Note: *; Supplier: Digi-Key; Supplier part number: 893-1312-1-ND; 2nd source Supplier: Mouser; Artikkelnr Simpro: N.A.
footprint USP-6EL
pins: 1 BAT (power), 2 GND (power), 3 CSO (out), 4 ISET (in), 5 THIN (in), 6 VIN (power), 7 GND (power) hidden to GND

## XCL210
designator U?, comment XCL210C33
3.3V 200mA Inductor Built-in Step-Down “micro DC/DC” Converter; Manufacturer: Torex Semiconductor; Part number IPS: 00000007826; Artikkelnr Noca: N.A.; Part Number: XCL210C33; Manufacturer Part Number: XCL210C33; Datasheet: https://www.torexsemi.com/file/xcl210/XCL210.pdf; Footprint Doc: CL-2025; LatestRevisionDate: 2017-01-30; Pin Count: 8; Publisher: Nordic Semiconductor; Published: 2016-09-29; Value: XCL210C33; Note: *; Supplier: *; Supplier part number: *; 2nd source Supplier: *; 2nd source part number: *; Artikkelnr Simpro: N.A.
footprint CL-2025
pins: 1 LX, 2 VSS (power), 3 VOUT (power), 4 CE (in), 5 N.C., 6 VIN (power), 7 L1, 8 L2, 9 VSS (power) hidden to GND

## XTAL_SMD2012
designator X?, comment 32.768kHz
XTAL SMD 2012, 32.768kHz, 9pF, ±20ppm; Part Number: XTAL_SMD2012_32.768kHz_9pF_MC; Manufacturer: Micro Crystal; Manufacturer Part Number: CM8V-T1A 32.768KHZ 9PF +/-20PPM TA QC; Part number IPS: 00000007828; Note: XTAL SMD 32.768kHz; Artikkelnr Noca: N.A.; Datasheet: http://www.microcrystal.com/images/_PDF/3_Crystal_Ceramic-Package/cm8v-t1a.pdf; LatestRevisionDate: 2017-01-30; Pin Count: 2; Publisher: Nordic Semiconductor; Published: 2016-09-15; Value: 32.768kHz; Supplier: Allied; Supplier part number: 70417961; 2nd source Supplier: *; 2nd source part number: *; Footprint Doc: XTAL_2012; Artikkelnr Simpro: N.A.
footprint XTAL_2012
pins: 1 inp, 2 out

## XTAL_SMD2016
designator X?, comment 32MHz
XTAL SMD 2016, 32MHz, Cl=8pF, Tot: ±40ppm; Part Number: XTAL_SMD2016_32MHz_8pF_Kyocera; Manufacturer: Kyocera; Manufacturer Part Number: CX2016DB32000D0WZRC1; Part number IPS: 00000007827; Note: XTAL SMD 32.000MHz; Artikkelnr Noca: 22010022; Artikkelnr Simpro: N.A.; Datasheet: http://media.digikey.com/pdf/Data%20Sheets/AVX%20PDFs/CX2016DB32000D0WZRC1_Spec.pdf; LatestRevisionDate: 2016-06-02; Pin Count: 4; Publisher: Nordic Semiconductor; Published: 2015-10-15; Value: 32MHz; Supplier: Digi-Key; Supplier part number: 1253-1586-1-ND; 2nd source Supplier: *; 2nd source part number: *; Footprint Doc: XTAL_2016
footprint BT-XTAL_2016
pins: 1 inp, 2 GND hidden to GND, 3 out, 4 GND hidden to GND